# Altium footprint library Capacitors_Misc.PcbLib: 3 footprints
Each footprint in its own frame and in the unit in brackets; x right, y up, seen from the top. Pads: shape width x height; smd on the part's side, far side on the other; paste and mask are expansions set on the pad; w line width, h text height; cw(c..) or ccw(c..) is an arc to the next point about the centre after c.
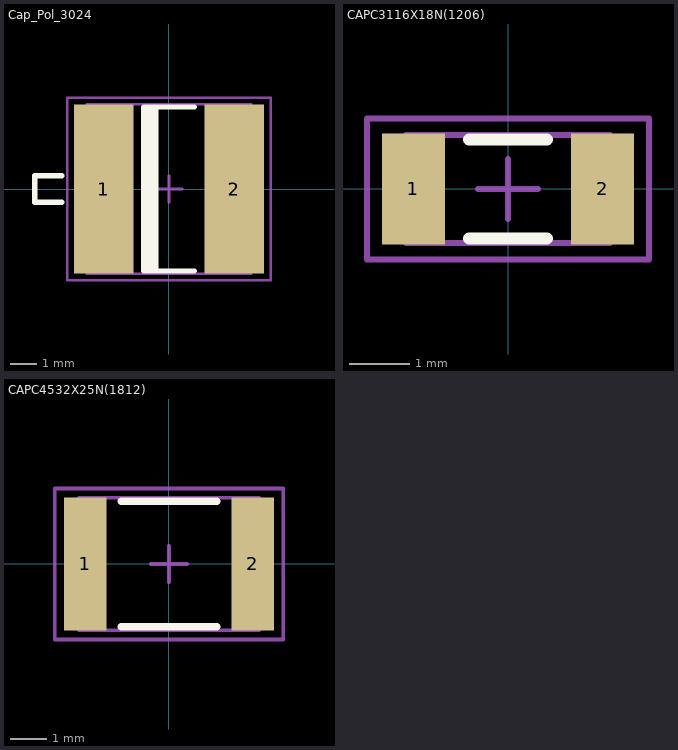
[diagram p0: the footprints below, top view; thin cyan lines are the x and y axes]

## Cap_Pol_3024 [mm] "Chip Capacitor, 2-Leads, Body 6.2x6.0mm, IPC Medium Density"
height 5.1
pads (2):
  rect 2.25x6.4 smd: 1(-2.475,0) 2(2.475,0)
Top Overlay:
  rectangle: -0.95,-3.1 -0.4,3.1
  lines w0.2: 0.95,-3.1 -0.95,-3.1 -0.95,3.1 0.95,3.1
  lines w0.203: -4.064,-0.508 -5.08,-0.508 -5.08,0.508 -4.064,0.508
Mechanical 13:
  lines w0.1: -3.1,-3.2 -3.1,3.2 3.1,3.2 3.1,-3.2 -3.1,-3.2
Mechanical 15:
  lines w0.1: -0.5,0 0.5,0 ; 0,-0.5 0,0.5 ; -3.85,-3.45 -3.85,3.45 3.85,3.45 3.85,-3.45 -3.85,-3.45
3D body: height 6, standoff 0, extent -4.562,-2.952 3.038,3.048

## CAPC3116X18N(1206) [mm] "Chip Capacitor, 2-Leads, Body 3.1x1.6mm, IPC Medium Density"
height 1.8
pads (2):
  rect 1.05x1.85 smd: 1(-1.575,0) 2(1.575,0)
Top Overlay:
  lines w0.2: -0.65,-0.825 0.65,-0.825 ; -0.65,0.825 0.65,0.825
Mechanical 13:
  lines w0.1: -1.7,-0.9 1.7,-0.9 1.7,0.9 -1.7,0.9 -1.7,-0.9
Mechanical 15:
  lines w0.1: -0.5,0 0.5,0 ; 0,-0.5 0,0.5 ; -2.35,-1.175 2.35,-1.175 2.35,1.175 -2.35,1.175 -2.35,-1.175
3D body: height 1.25, standoff 0, extent -1.6,-0.762 1.6,0.838

## CAPC4532X25N(1812) [mm] "Chip Capacitor, 2-Leads, Body 4.5x3.2mm, IPC Medium Density"
height 2.5
pads (2):
  rect 1.15x3.6 smd: 1(-2.275,0) 2(2.275,0)
Top Overlay:
  lines w0.2: -1.3,-1.7 1.3,-1.7 ; -1.3,1.7 1.3,1.7
Mechanical 13:
  lines w0.1: -2.45,-1.8 2.45,-1.8 2.45,1.8 -2.45,1.8 -2.45,-1.8
Mechanical 15:
  lines w0.1: -0.5,0 0.5,0 ; 0,-0.5 0,0.5 ; -3.1,-2.05 3.1,-2.05 3.1,2.05 -3.1,2.05 -3.1,-2.05
3D body: height 2.54, standoff 0, extent -2.81,-1.6 2.81,1.6